# Altium footprint library KEMET_PHE850_10mm.PcbLib: 1 footprints
Each footprint in its own frame and in the unit in brackets; x right, y up, seen from the top. Pads: shape width x height; smd on the part's side, far side on the other; paste and mask are expansions set on the pad; w line width, h text height; cw(c..) or ccw(c..) is an arc to the next point about the centre after c.
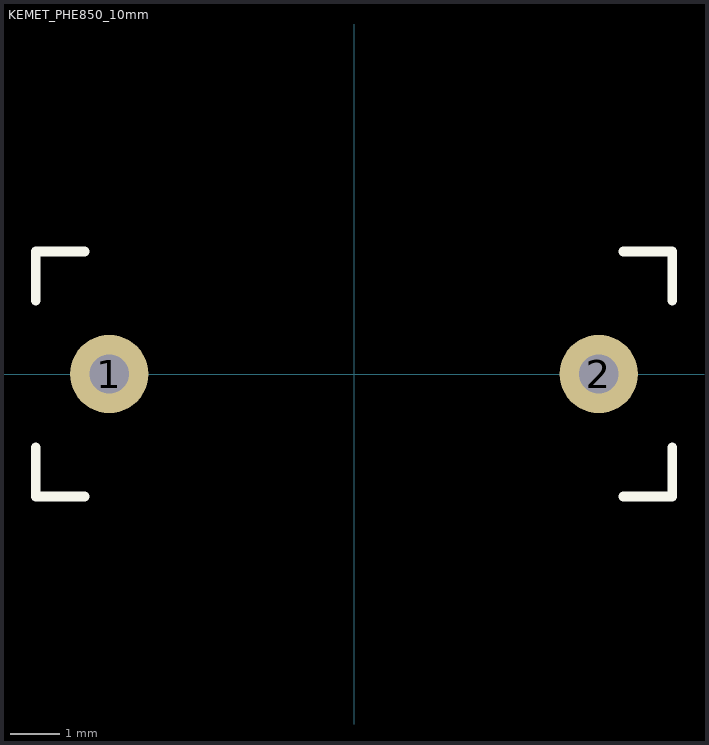
[diagram p0: the footprint, top view; thin cyan lines are the x and y axes]

## KEMET_PHE850_10mm [mm] "KEMET PHE850 10mm Lead spacing"
pads (2):
  round 1.6 hole 0.8: 1(-5,0) 2(5,0)
Top Overlay:
  lines w0.2: -6.5,-1.5 -6.5,-2.5 -5.5,-2.5 ; -6.5,1.5 -6.5,2.5 -5.5,2.5 ; 5.5,-2.5 6.5,-2.5 6.5,-1.5 ; 5.5,2.5 6.5,2.5 6.5,1.5
3D body: height 12, standoff 0, extent -6.5,-2.5 6.5,2.5